# EAGLE library part UPC1298V (library Audio-Power-amlifier V.2.0)
The uPC1298V is an integrated monolithic circuit in a 14-SQL type package designed for use in 50W to 80W class HiFi audio power amplifier applications. This device consists of an input differential amplifier, a predriver circuit, a driver circuit, and an over current protection circuit.
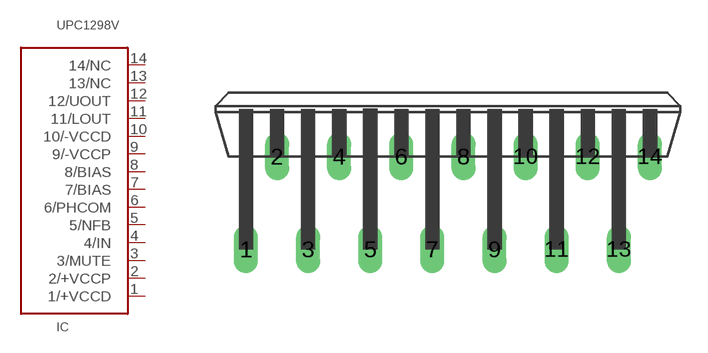
[diagram p81: symbol with the pads of SQL-14; footprint SQL-14]

Designator prefix IC

## UPC1298V  [SQL-14]
1  1/+VCCD  pwr
2  2/+VCCP  pwr
3  3/MUTE
4  4/IN  in
5  5/NFB
6  6/PHCOM
7  7/BIAS
8  8/BIAS
9  9/-VCCP  pwr
10  10/-VCCD  pwr
11  11/LOUT  out
12  12/UOUT  out
13  13/NC  nc
14  14/NC  nc

## Footprint SQL-14 (pad centres in mm)
drill 0.8 long: 1 -11.05,-2.54; 2 -9.35,2.54; 3 -7.65,-2.54; 4 -5.95,2.54; 5 -4.25,-2.54; 6 -2.55,2.54; 7 -0.85,-2.54; 8 0.85,2.54; 9 2.55,-2.54; 10 4.25,2.54; 11 5.95,-2.54; 12 7.65,2.54; 13 9.35,-2.54; 14 11.05,2.54